# Altium footprint library TO 220H.PcbLib: 1 footprints
Each footprint in its own frame and in the unit in brackets; x right, y up, seen from the top. Pads: shape width x height; smd on the part's side, far side on the other; paste and mask are expansions set on the pad; w line width, h text height; cw(c..) or ccw(c..) is an arc to the next point about the centre after c.
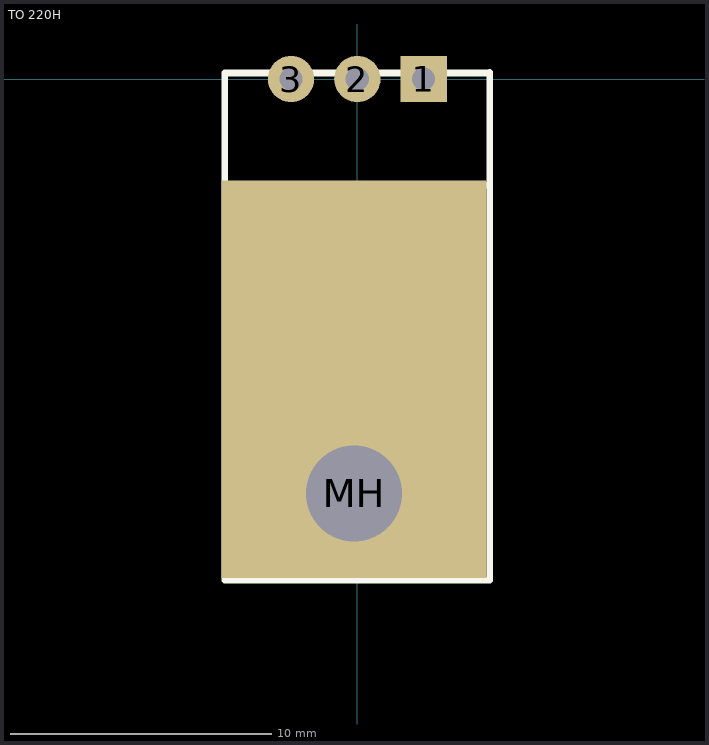
[diagram p0: the footprint, top view; thin cyan lines are the x and y axes]

## TO 220H [mil] "TO-220 Package"
pads (4):
  rect 70x70 hole 35: 1(100,0)
  round 70 hole 35: 2(0,0) 3(-100,0)
  rect 400x600 hole 145 copper offset 0,172: MH(-5,-625)
Top Overlay:
  lines w10: -200,-160 195,-160 ; 199,9 -200,9 -200,-756 200,-756 200,10
3D body: height 175.35, standoff -108.11, extent -205,-752.48 195,14.84